# Altium footprint library PcbLibIСONNECTOR.PcbLib: 37 footprints (part 3 of 3)
Each footprint in its own frame and in the unit in brackets; x right, y up, seen from the top. Pads: shape width x height; smd on the part's side, far side on the other; paste and mask are expansions set on the pad; w line width, h text height; cw(c..) or ccw(c..) is an arc to the next point about the centre after c.
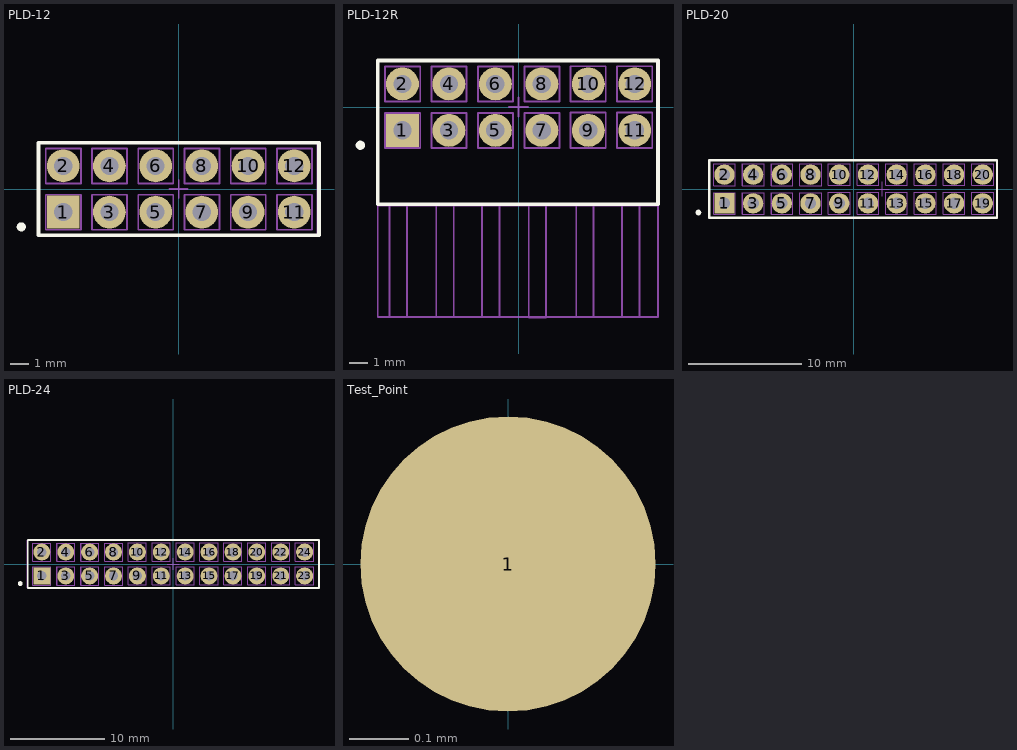
[diagram p2: the footprints below, top view; thin cyan lines are the x and y axes]

## PLD-12 [mm] "15.24mmx5mmx13.5mm"
height 13.5
pads (12):
  rect 1.8x1.8 hole 1: 1(-6.35,-1.27)
  round 1.8 hole 1: 2(-6.35,1.27) 3(-3.81,-1.27) 4(-3.81,1.27) 5(-1.27,-1.27) 6(-1.27,1.27) 7(1.27,-1.27) 8(1.27,1.27) 9(3.81,-1.27) 10(3.81,1.27) 11(6.35,-1.27) 12(6.35,1.27)
Top Overlay:
  circle w0.254: c-8.655,-2.083 r0.125
  lines w0.2: 7.635,-2.55 -7.705,-2.55 -7.705,2.55 7.635,2.55 ; 7.71,-2.55 7.71,2.55
TopAssy:
  circle w0.1: c6.35,-1.27 r0.631
  circle w0.1: c6.35,1.27 r0.631
  circle w0.1: c3.81,-1.27 r0.631
  circle w0.1: c3.81,1.27 r0.631
  circle w0.1: c1.27,1.27 r0.631
  circle w0.1: c-1.27,1.27 r0.631
  circle w0.1: c-3.81,1.27 r0.631
  circle w0.1: c-6.35,1.27 r0.631
  circle w0.1: c-6.35,-1.27 r0.631
  circle w0.1: c-3.81,-1.27 r0.631
  circle w0.1: c-1.27,-1.27 r0.631
  circle w0.1: c1.27,-1.27 r0.631
  lines w0.1: 2.53,-2.55 -7.705,-2.55 -7.705,2.55 7.635,2.55 ; 7.61,-2.55 7.61,2.55 ; -4.765,-2.24 -2.84,-2.24 ; -4.765,-2.24 -4.765,-0.315 ; -4.765,-2.24 -4.765,-0.315 ; -4.765,-2.24 -2.84,-2.24 ; -4.765,-0.315 -2.84,-0.315 ; -4.765,-0.315 -2.84,-0.315 ; -4.765,0.3 -2.84,0.3 ; -4.765,0.3 -4.765,2.225 ; -4.765,0.3 -4.765,2.225 ; -4.765,0.3 -2.84,0.3 ; -4.765,2.225 -2.84,2.225 ; -4.765,2.225 -2.84,2.225 ; -2.84,-2.24 -2.84,-0.315 ; -2.84,-2.24 -2.84,-0.315 ; -2.84,0.3 -2.84,2.225 ; -2.84,0.3 -2.84,2.225 ; -2.225,-2.24 -0.3,-2.24 ; -2.225,-2.24 -2.225,-0.315 ; -2.225,-2.24 -0.3,-2.24 ; -2.225,-2.24 -2.225,-0.315 ; -2.225,-0.315 -0.3,-0.315 ; -2.225,-0.315 -0.3,-0.315 ; -2.225,0.3 -0.3,0.3 ; -2.225,0.3 -2.225,2.225 ; -2.225,0.3 -0.3,0.3 ; -2.225,0.3 -2.225,2.225 ; -2.225,2.225 -0.3,2.225 ; -2.225,2.225 -0.3,2.225 ; -0.3,-2.24 -0.3,-0.315 ; -0.3,-2.24 -0.3,-0.315 ; -0.3,0.3 -0.3,2.225 ; -0.3,0.3 -0.3,2.225 ; -7.305,-2.24 -7.305,-0.315 -5.38,-0.315 -5.38,-2.24 -7.305,-2.24 ; -7.305,0.3 -7.305,2.225 -5.38,2.225 -5.38,0.3 -7.305,0.3 ; 0.315,-2.24 2.24,-2.24 2.24,-0.315 0.315,-0.315 0.315,-2.24 ; 0.315,0.3 2.24,0.3 2.24,2.225 0.315,2.225 0.315,0.3 ; 2.855,-2.24 2.855,-0.315 4.78,-0.315 4.78,-2.24 2.855,-2.24 ; 2.855,0.3 2.855,2.225 4.78,2.225 4.78,0.3 2.855,0.3 ; 5.395,-2.24 5.395,-0.315 7.32,-0.315 7.32,-2.24 5.395,-2.24 ; 5.395,0.3 5.395,2.225 7.32,2.225 7.32,0.3 5.395,0.3
Inside:
  lines w0.1: -0.5,0 0,0 ; 0,-0.5 0,0 ; 0,0.5 0,0 ; 0.5,0 0,0 ; -7.705,-2.55 7.635,-2.55 7.635,2.55 -7.705,2.55 -7.705,-2.55
3D body "User Library-PLS2.STEP": height 8.54, standoff -3, extent 5.045,-2.515 7.585,2.565
3D body "User Library-PLS2.STEP": height 8.54, standoff -3, extent 2.505,-2.515 5.045,2.565
3D body "User Library-PLS2.STEP": height 8.54, standoff -3, extent -0.035,-2.515 2.505,2.565
3D body "User Library-PLS2.STEP": height 8.54, standoff -3, extent -2.575,-2.515 -0.035,2.565
3D body "User Library-PLS2.STEP": height 8.54, standoff -3, extent -5.115,-2.515 -2.575,2.565
3D body "User Library-PLS2.STEP": height 8.54, standoff -3, extent -7.655,-2.515 -5.115,2.565

## PLD-12R [mm]
pads (12):
  rect 1.8x1.8 hole 1: 1(-6.35,-1.27)
  round 1.8 hole 1: 2(-6.35,1.27) 3(-3.81,-1.27) 4(-3.81,1.27) 5(-1.27,-1.27) 6(-1.27,1.27) 7(1.27,-1.27) 8(1.27,1.27) 9(3.81,-1.27) 10(3.81,1.27) 11(6.35,-1.27) 12(6.35,1.27)
Top Overlay:
  circle w0.254: c-8.655,-2.083 r0.125
  lines w0.2: -7.705,-5.3 -7.705,2.55 7.62,2.55 7.62,-5.3 -7.705,-5.3
TopAssy:
  circle w0.1: c6.35,-1.27 r0.631
  circle w0.1: c3.81,-1.27 r0.631
  circle w0.1: c1.27,-1.27 r0.631
  circle w0.1: c-1.27,-1.27 r0.631
  circle w0.1: c-3.81,-1.27 r0.631
  circle w0.1: c-6.35,-1.27 r0.631
  circle w0.1: c-6.35,1.27 r0.631
  circle w0.1: c-3.81,1.27 r0.631
  circle w0.1: c-1.27,1.27 r0.631
  circle w0.1: c1.27,1.27 r0.631
  circle w0.1: c3.81,1.27 r0.631
  circle w0.1: c6.35,1.27 r0.631
  lines w0.1: -7.125,-5.375 -7,-5.375 ; -7.025,-5.375 -7.05,-5.375 -7.05,-11.475 -6.1,-11.475 -6.1,-5.375 ; -4.5,-5.375 -4.5,-11.475 -3.55,-11.475 -3.55,-5.375 ; -2,-5.375 -2,-11.475 -1.05,-11.475 -1.05,-5.375 ; 0.55,-5.4 0.55,-11.5 1.5,-11.5 1.5,-5.4 ; 3.15,-5.375 3.15,-11.475 4.1,-11.475 4.1,-5.375 ; 5.65,-5.375 5.65,-11.475 6.6,-11.475 6.6,-5.375 ; -4.765,-2.24 -2.84,-2.24 ; -4.765,-2.24 -4.765,-0.315 ; -4.765,-2.24 -4.765,-0.315 ; -4.765,-2.24 -2.84,-2.24 ; -4.765,-0.315 -2.84,-0.315 ; -4.765,-0.315 -2.84,-0.315 ; -4.765,0.3 -2.84,0.3 ; -4.765,0.3 -4.765,2.225 ; -4.765,0.3 -4.765,2.225 ; -4.765,0.3 -2.84,0.3 ; -4.765,2.225 -2.84,2.225 ; -4.765,2.225 -2.84,2.225 ; -2.84,-2.24 -2.84,-0.315 ; -2.84,-2.24 -2.84,-0.315 ; -2.84,0.3 -2.84,2.225 ; -2.84,0.3 -2.84,2.225 ; -2.225,-2.24 -2.225,-0.315 ; -2.225,-2.24 -0.3,-2.24 ; -2.225,-2.24 -2.225,-0.315 ; -2.225,-2.24 -0.3,-2.24 ; -2.225,-0.315 -0.3,-0.315 ; -2.225,-0.315 -0.3,-0.315 ; -2.225,0.3 -2.225,2.225 ; -2.225,0.3 -0.3,0.3 ; -2.225,0.3 -2.225,2.225 ; -2.225,0.3 -0.3,0.3 ; -2.225,2.225 -0.3,2.225 ; -2.225,2.225 -0.3,2.225 ; -0.3,-2.24 -0.3,-0.315 ; -0.3,-2.24 -0.3,-0.315 ; -0.3,0.3 -0.3,2.225 ; -0.3,0.3 -0.3,2.225 ; -7.705,-5.375 7.605,-5.375 7.605,2.55 -7.705,2.55 -7.705,-5.375 ; -7.305,-2.24 -5.38,-2.24 -5.38,-0.315 -7.305,-0.315 -7.305,-2.24 ; -7.305,0.3 -5.38,0.3 -5.38,2.225 -7.305,2.225 -7.305,0.3 ; 0.315,-2.24 0.315,-0.315 2.24,-0.315 2.24,-2.24 0.315,-2.24 ; 0.315,0.3 0.315,2.225 2.24,2.225 2.24,0.3 0.315,0.3 ; 2.84,-2.225 4.765,-2.225 4.765,-0.3 2.84,-0.3 2.84,-2.225 ; 2.84,0.315 4.765,0.315 4.765,2.24 2.84,2.24 2.84,0.315 ; 5.38,-2.225 7.305,-2.225 7.305,-0.3 5.38,-0.3 5.38,-2.225 ; 5.38,0.315 7.305,0.315 7.305,2.24 5.38,2.24 5.38,0.315
Inside:
  lines w0.1: -0.525,0 0,0 ; 0,-0.525 0,0 ; 0,0.525 0,0 ; 0.525,0 0,0 ; 7.62,-0.625 7.62,0 7.62,0.625 ; -7.705,-11.475 -7.705,2.55 7.62,2.55 7.62,-11.475 -7.705,-11.475
3D body "PLD-6RD_(DS1022_CONNFLY).stp": height 5.08, standoff -3, extent 0,-11.35 7.62,1.55
3D body "PLD-6RD_(DS1022_CONNFLY).stp": height 5.08, standoff -3, extent -7.615,-11.35 0.005,1.55

## PLD-20 [mm]
pads (20):
  rect 1.8x1.8 hole 1: 1(-11.43,-1.27)
  round 1.8 hole 1: 2(-11.43,1.27) 3(-8.89,-1.27) 4(-8.89,1.27) 5(-6.35,-1.27) 6(-6.35,1.27) 7(-3.81,-1.27) 8(-3.81,1.27) 9(-1.27,-1.27) 10(-1.27,1.27) 11(1.27,-1.27) 12(1.27,1.27) 13(3.81,-1.27) 14(3.81,1.27) 15(6.35,-1.27) 16(6.35,1.27) 17(8.89,-1.27) 18(8.89,1.27) 19(11.43,-1.27) 20(11.43,1.27)
Top Overlay:
  circle w0.254: c-13.735,-2.083 r0.125
  lines w0.2: -12.785,-2.55 -12.785,2.55 12.69,2.55 12.69,-2.55 -12.785,-2.55
TopAssy:
  circle w0.1: c11.43,1.27 r0.631
  circle w0.1: c11.43,-1.27 r0.631
  circle w0.1: c8.89,-1.27 r0.631
  circle w0.1: c8.89,1.27 r0.631
  circle w0.1: c6.35,1.27 r0.631
  circle w0.1: c6.35,-1.27 r0.631
  circle w0.1: c6.35,-1.27 r0.631
  circle w0.1: c3.81,-1.27 r0.631
  circle w0.1: c1.27,-1.27 r0.631
  circle w0.1: c-1.27,-1.27 r0.631
  circle w0.1: c-3.81,-1.27 r0.631
  circle w0.1: c-6.35,-1.27 r0.631
  circle w0.1: c-8.89,-1.27 r0.631
  circle w0.1: c-11.43,-1.27 r0.631
  circle w0.1: c-11.43,1.27 r0.631
  circle w0.1: c-8.89,1.27 r0.631
  circle w0.1: c-6.35,1.27 r0.631
  circle w0.1: c-3.81,1.27 r0.631
  circle w0.1: c-1.27,1.27 r0.631
  circle w0.1: c1.27,1.27 r0.631
  circle w0.1: c3.81,1.27 r0.631
  lines w0.1: -9.845,-2.24 -7.92,-2.24 ; -9.845,-2.24 -9.845,-0.315 ; -9.845,-2.24 -9.845,-0.315 ; -9.845,-2.24 -7.92,-2.24 ; -9.845,-0.315 -7.92,-0.315 ; -9.845,-0.315 -7.92,-0.315 ; -9.845,0.3 -7.92,0.3 ; -9.845,0.3 -9.845,2.225 ; -9.845,0.3 -9.845,2.225 ; -9.845,0.3 -7.92,0.3 ; -9.845,2.225 -7.92,2.225 ; -9.845,2.225 -7.92,2.225 ; -7.92,-2.24 -7.92,-0.315 ; -7.92,-2.24 -7.92,-0.315 ; -7.92,0.3 -7.92,2.225 ; -7.92,0.3 -7.92,2.225 ; -7.305,-2.24 -7.305,-0.315 ; -7.305,-2.24 -5.38,-2.24 ; -7.305,-2.24 -7.305,-0.315 ; -7.305,-2.24 -5.38,-2.24 ; -7.305,-0.315 -5.38,-0.315 ; -7.305,-0.315 -5.38,-0.315 ; -7.305,0.3 -7.305,2.225 ; -7.305,0.3 -5.38,0.3 ; -7.305,0.3 -7.305,2.225 ; -7.305,0.3 -5.38,0.3 ; -7.305,2.225 -5.38,2.225 ; -7.305,2.225 -5.38,2.225 ; -5.38,-2.24 -5.38,-0.315 ; -5.38,-2.24 -5.38,-0.315 ; -5.38,0.3 -5.38,2.225 ; -5.38,0.3 -5.38,2.225 ; -12.785,-2.55 12.69,-2.55 12.69,2.55 -12.785,2.55 -12.785,-2.55 ; -12.385,-2.24 -10.46,-2.24 -10.46,-0.315 -12.385,-0.315 -12.385,-2.24 ; -12.385,0.3 -10.46,0.3 -10.46,2.225 -12.385,2.225 -12.385,0.3 ; -4.765,-2.24 -4.765,-0.315 -2.84,-0.315 -2.84,-2.24 -4.765,-2.24 ; -4.765,0.3 -4.765,2.225 -2.84,2.225 -2.84,0.3 -4.765,0.3 ; -2.24,-2.225 -0.315,-2.225 -0.315,-0.3 -2.24,-0.3 -2.24,-2.225 ; -2.24,0.315 -0.315,0.315 -0.315,2.24 -2.24,2.24 -2.24,0.315 ; 0.3,-2.225 2.225,-2.225 2.225,-0.3 0.3,-0.3 0.3,-2.225 ; 0.3,0.315 2.225,0.315 2.225,2.24 0.3,2.24 0.3,0.315 ; 2.84,-2.225 4.765,-2.225 4.765,-0.3 2.84,-0.3 2.84,-2.225 ; 2.84,0.315 4.765,0.315 4.765,2.24 2.84,2.24 2.84,0.315 ; 5.38,-2.225 5.38,-0.3 7.305,-0.3 7.305,-2.225 5.38,-2.225 ; 5.38,0.315 5.38,2.24 7.305,2.24 7.305,0.315 5.38,0.315 ; 7.92,-2.225 7.92,-0.3 9.845,-0.3 9.845,-2.225 7.92,-2.225 ; 7.92,0.315 9.845,0.315 9.845,2.24 7.92,2.24 7.92,0.315 ; 10.46,-2.225 10.46,-0.3 12.385,-0.3 12.385,-2.225 10.46,-2.225 ; 10.46,0.315 12.385,0.315 12.385,2.24 10.46,2.24 10.46,0.315
Inside:
  lines w0.1: 1.915,0 2.54,0 ; 2.54,-0.625 2.54,0 ; 2.54,0.625 2.54,0 ; 3.165,0 2.54,0 ; -12.785,-2.55 -12.785,2.55 12.69,2.55 12.69,-2.55 -12.785,-2.55
3D body "User Library-PLS2.STEP": height 8.54, standoff -3, extent -12.735,-2.515 -10.195,2.565
3D body "User Library-PLS2.STEP": height 8.54, standoff -3, extent -10.195,-2.515 -7.655,2.565
3D body "User Library-PLS2.STEP": height 8.54, standoff -3, extent -7.655,-2.515 -5.115,2.565
3D body "User Library-PLS2.STEP": height 8.54, standoff -3, extent -5.115,-2.515 -2.575,2.565
3D body "User Library-PLS2.STEP": height 8.54, standoff -3, extent -2.575,-2.515 -0.035,2.565
3D body "User Library-PLS2.STEP": height 8.54, standoff -3, extent -0.035,-2.515 2.505,2.565
3D body "User Library-PLS2.STEP": height 8.54, standoff -3, extent 2.505,-2.515 5.045,2.565
3D body "User Library-PLS2.STEP": height 8.54, standoff -3, extent 5.045,-2.515 7.585,2.565
3D body "User Library-PLS2.STEP": height 8.54, standoff -3, extent 7.585,-2.515 10.125,2.565
3D body "User Library-PLS2.STEP": height 8.54, standoff -3, extent 10.125,-2.515 12.665,2.565

## PLD-24 [mm]
pads (24):
  rect 1.8x1.8 hole 1: 1(-13.97,-1.27)
  round 1.8 hole 1: 2(-13.97,1.27) 3(-11.43,-1.27) 4(-11.43,1.27) 5(-8.89,-1.27) 6(-8.89,1.27) 7(-6.35,-1.27) 8(-6.35,1.27) 9(-3.81,-1.27) 10(-3.81,1.27) 11(-1.27,-1.27) 12(-1.27,1.27) 13(1.27,-1.27) 14(1.27,1.27) 15(3.81,-1.27) 16(3.81,1.27) 17(6.35,-1.27) 18(6.35,1.27) 19(8.89,-1.27) 20(8.89,1.27) 21(11.43,-1.27) 22(11.43,1.27) 23(13.97,-1.27) 24(13.97,1.27)
Top Overlay:
  circle w0.254: c-16.275,-2.083 r0.125
  lines w0.2: -15.475,-2.55 15.5,-2.55 15.5,2.55 -15.475,2.55 -15.475,-2.55
TopAssy:
  circle w0.1: c1.27,1.27 r0.631
  circle w0.1: c-1.27,1.27 r0.631
  circle w0.1: c-3.81,1.27 r0.631
  circle w0.1: c-6.35,1.27 r0.631
  circle w0.1: c-8.89,1.27 r0.631
  circle w0.1: c-11.43,1.27 r0.631
  circle w0.1: c-13.97,1.27 r0.631
  circle w0.1: c-13.97,-1.27 r0.631
  circle w0.1: c-11.43,-1.27 r0.631
  circle w0.1: c-8.89,-1.27 r0.631
  circle w0.1: c-6.35,-1.27 r0.631
  circle w0.1: c-3.81,-1.27 r0.631
  circle w0.1: c-1.27,-1.27 r0.631
  circle w0.1: c1.27,-1.27 r0.631
  circle w0.1: c3.81,-1.27 r0.631
  circle w0.1: c3.81,-1.27 r0.631
  circle w0.1: c3.81,1.27 r0.631
  circle w0.1: c6.35,1.27 r0.631
  circle w0.1: c6.35,-1.27 r0.631
  circle w0.1: c8.89,-1.27 r0.631
  circle w0.1: c8.89,1.27 r0.631
  circle w0.1: c13.97,1.27 r0.631
  circle w0.1: c11.43,1.27 r0.631
  circle w0.1: c11.43,-1.27 r0.631
  circle w0.1: c13.97,-1.27 r0.631
  lines w0.1: -12.385,-2.24 -10.46,-2.24 ; -12.385,-2.24 -12.385,-0.315 ; -12.385,-2.24 -12.385,-0.315 ; -12.385,-2.24 -10.46,-2.24 ; -12.385,-0.315 -10.46,-0.315 ; -12.385,-0.315 -10.46,-0.315 ; -12.385,0.3 -10.46,0.3 ; -12.385,0.3 -12.385,2.225 ; -12.385,0.3 -12.385,2.225 ; -12.385,0.3 -10.46,0.3 ; -12.385,2.225 -10.46,2.225 ; -12.385,2.225 -10.46,2.225 ; -10.46,-2.24 -10.46,-0.315 ; -10.46,-2.24 -10.46,-0.315 ; -10.46,0.3 -10.46,2.225 ; -10.46,0.3 -10.46,2.225 ; -9.845,-2.24 -7.92,-2.24 ; -9.845,-2.24 -9.845,-0.315 ; -9.845,-2.24 -7.92,-2.24 ; -9.845,-2.24 -9.845,-0.315 ; -9.845,-0.315 -7.92,-0.315 ; -9.845,-0.315 -7.92,-0.315 ; -9.845,0.3 -7.92,0.3 ; -9.845,0.3 -9.845,2.225 ; -9.845,0.3 -7.92,0.3 ; -9.845,0.3 -9.845,2.225 ; -9.845,2.225 -7.92,2.225 ; -9.845,2.225 -7.92,2.225 ; -7.92,-2.24 -7.92,-0.315 ; -7.92,-2.24 -7.92,-0.315 ; -7.92,0.3 -7.92,2.225 ; -7.92,0.3 -7.92,2.225 ; -15.475,-2.55 -15.475,2.55 15.5,2.55 15.5,-2.55 -15.475,-2.55 ; -14.925,-2.24 -14.925,-0.315 -13,-0.315 -13,-2.24 -14.925,-2.24 ; -14.925,0.3 -14.925,2.225 -13,2.225 -13,0.3 -14.925,0.3 ; -7.305,-2.24 -5.38,-2.24 -5.38,-0.315 -7.305,-0.315 -7.305,-2.24 ; -7.305,0.3 -5.38,0.3 -5.38,2.225 -7.305,2.225 -7.305,0.3 ; -4.78,-2.225 -4.78,-0.3 -2.855,-0.3 -2.855,-2.225 -4.78,-2.225 ; -4.78,0.315 -4.78,2.24 -2.855,2.24 -2.855,0.315 -4.78,0.315 ; -2.24,-2.225 -2.24,-0.3 -0.315,-0.3 -0.315,-2.225 -2.24,-2.225 ; -2.24,0.315 -2.24,2.24 -0.315,2.24 -0.315,0.315 -2.24,0.315 ; 0.3,-2.225 0.3,-0.3 2.225,-0.3 2.225,-2.225 0.3,-2.225 ; 0.3,0.315 0.3,2.24 2.225,2.24 2.225,0.315 0.3,0.315 ; 2.84,-2.225 4.765,-2.225 4.765,-0.3 2.84,-0.3 2.84,-2.225 ; 2.84,0.315 4.765,0.315 4.765,2.24 2.84,2.24 2.84,0.315 ; 5.38,-2.225 7.305,-2.225 7.305,-0.3 5.38,-0.3 5.38,-2.225 ; 5.38,0.315 5.38,2.24 7.305,2.24 7.305,0.315 5.38,0.315 ; 7.92,-2.225 9.845,-2.225 9.845,-0.3 7.92,-0.3 7.92,-2.225 ; 7.92,0.315 7.92,2.24 9.845,2.24 9.845,0.315 7.92,0.315 ; 10.46,-2.225 12.385,-2.225 12.385,-0.3 10.46,-0.3 10.46,-2.225 ; 10.46,0.315 10.46,2.24 12.385,2.24 12.385,0.315 10.46,0.315 ; 13,-2.225 13,-0.3 14.925,-0.3 14.925,-2.225 13,-2.225 ; 13,0.315 14.925,0.315 14.925,2.24 13,2.24 13,0.315
Inside:
  lines w0.1: -0.625,0 0,0 ; 0,-0.625 0,0 ; 0,0.625 0,0 ; 0.625,0 0,0 ; -15.5,-2.55 15.5,-2.55 15.5,2.55 -15.5,2.55 -15.5,-2.55
3D body "User Library-PLD-xx.step": height 8.4, standoff -3, extent -15.24,-2.5 15.24,2.5

## Test_Point [mm]
pads (1):
  round 0.5 smd: 1(0,0)